# Altium footprint library Library.PcbLib: 124 footprints (part 7 of 8)
Each footprint in its own frame and in the unit in brackets; x right, y up, seen from the top. Pads: shape width x height; smd on the part's side, far side on the other; paste and mask are expansions set on the pad; w line width, h text height; cw(c..) or ccw(c..) is an arc to the next point about the centre after c.
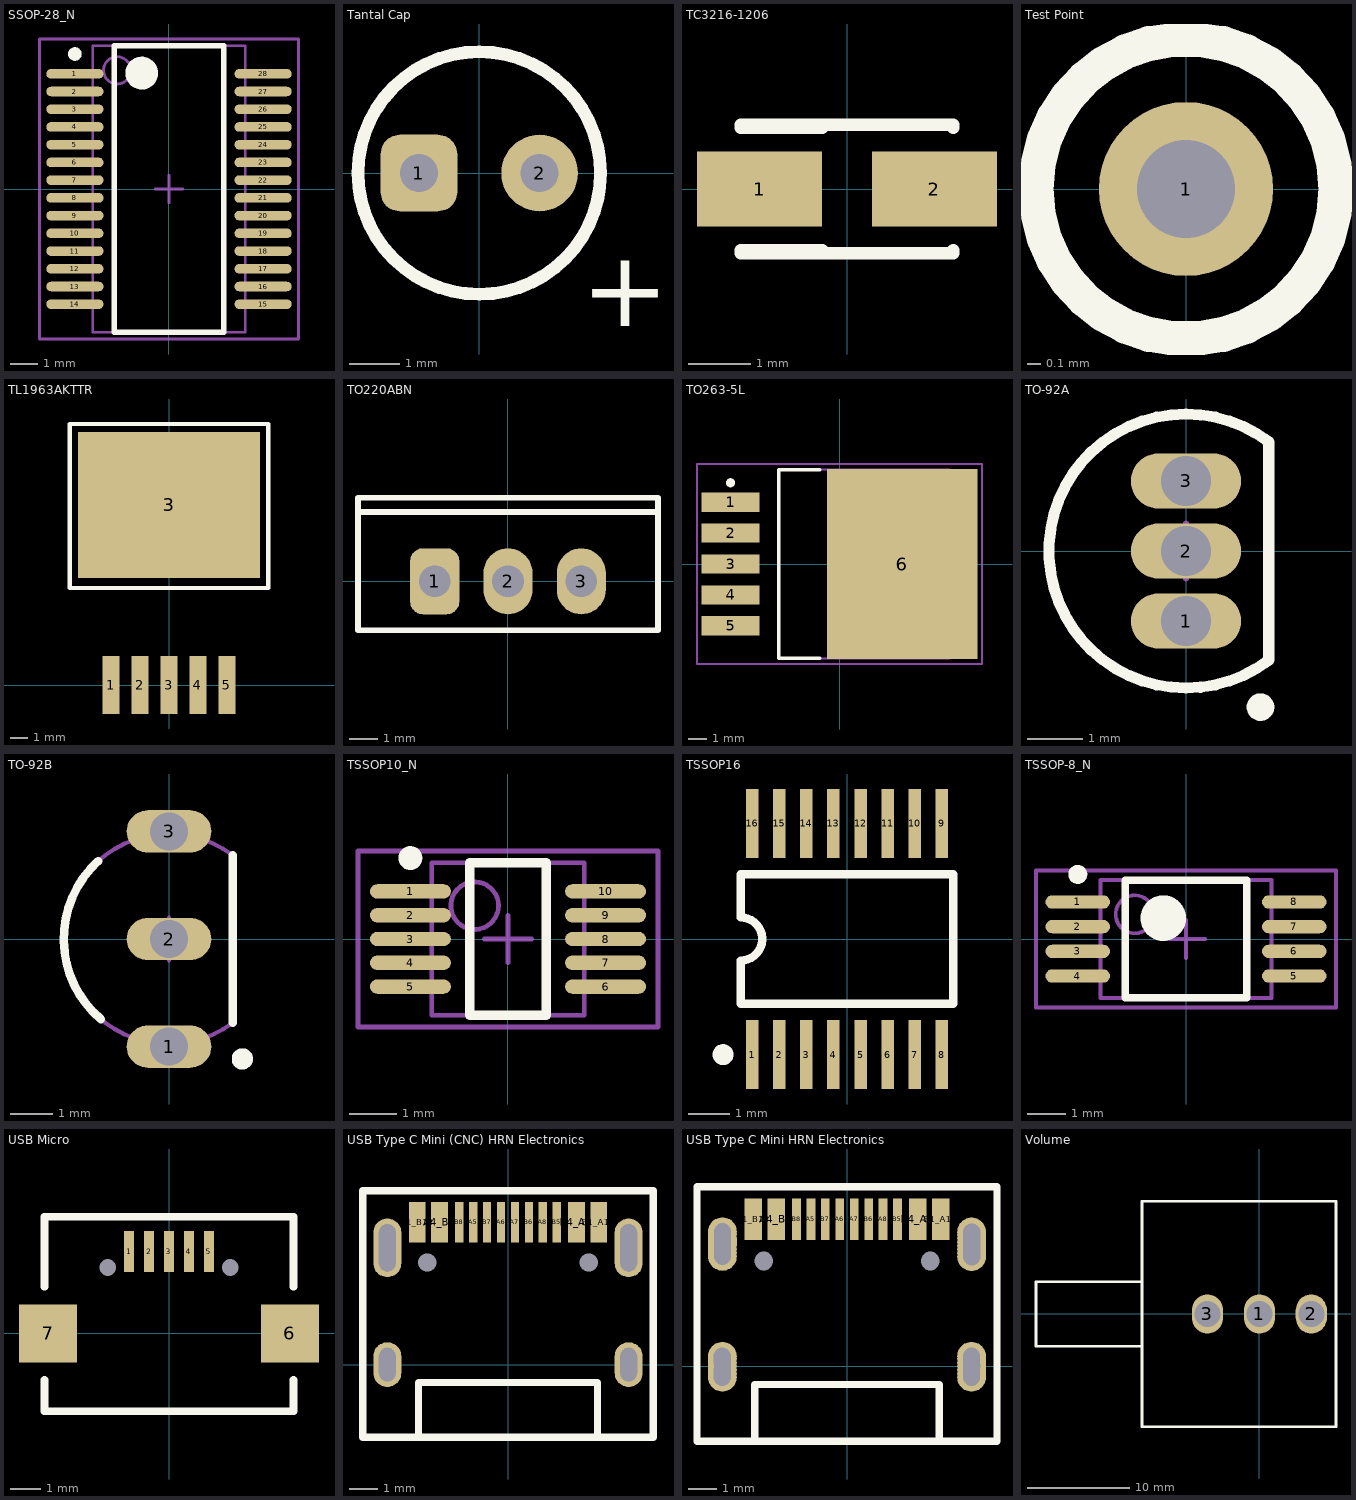
[diagram p6: the footprints below, top view; thin cyan lines are the x and y axes]

## SSOP-28_N [mm] "SOP, 28-Leads, Body 10.2x5.3mm, Pitch 0.65mm, IPC Medium Density"
height 2
pads (28):
  oval 2.1x0.35 smd: 1(-3.45,4.225) 2(-3.45,3.575) 3(-3.45,2.925) 4(-3.45,2.275) 5(-3.45,1.625) 6(-3.45,0.975) 7(-3.45,0.325) 8(-3.45,-0.325) 9(-3.45,-0.975) 10(-3.45,-1.625) 11(-3.45,-2.275) 12(-3.45,-2.925) 13(-3.45,-3.575) 14(-3.45,-4.225) 15(3.45,-4.225) 16(3.45,-3.575) 17(3.45,-2.925) 18(3.45,-2.275) 19(3.45,-1.625) 20(3.45,-0.975) 21(3.45,-0.325) 22(3.45,0.325) 23(3.45,0.975) 24(3.45,1.625) 25(3.45,2.275) 26(3.45,2.925) 27(3.45,3.575) 28(3.45,4.225)
Top Overlay:
  circle w0.25: c-3.45,4.95 r0.125
  circle w0.6: c-1,4.25 r0.3
  lines w0.2: -2,-5.25 -2,5.25 2,5.25 2,-5.25 -2,-5.25
Mechanical 13:
  circle w0.1: c-1.9,4.35 r0.5
  lines w0.1: -2.8,-5.25 -2.8,5.25 2.8,5.25 2.8,-5.25 -2.8,-5.25
Mechanical 15:
  lines w0.1: -0.5,0 0.5,0 ; 0,-0.5 0,0.5 ; -4.75,-5.5 -4.75,5.5 4.75,5.5 4.75,-5.5 -4.75,-5.5
3D body: height 2, standoff 0.05, extent -2.8,-5.25 2.8,5.25

## Tantal Cap [mil] "Tantalum Capacitor"
height 275.59
pads (2):
  rrect50% 60x60 hole 30: 1(-47.24,0)
  round 60 hole 30: 2(47.24,0)
Top Overlay:
  circle w10: c0,0 r95
  text "+" at 80,-120 h60

## TC3216-1206 [mm] "Capacitor, SM Tantalum; Body 3.2 x 1.6 mm (LxW typ)"
height 2.2
pads (2):
  rect 2x1.2 smd: 1(-1.4,0) 2(1.4,0)
Top Overlay:
  lines w0.2: -1.7,-1.027 1.7,-1.027 1.7,-0.977 ; -1.7,-0.977 -0.4,-0.977 ; -1.7,0.977 -0.4,0.977 ; -1.7,1.027 1.7,1.027 1.7,0.977

## Test Point [mil]
pads (1):
  round 50 hole 27.99: 1(0,0)
Top Overlay:
  circle w10: c0,0 r43.01

## TL1963AKTTR [mm]
pads (6):
  rect 1x3.4 smd: 1(-3.4,0) 2(-1.7,0) 3(0,0) 4(1.7,0) 5(3.4,0)
  rect 10.7x8.6 smd: 3(0,10.6)
Top Overlay:
  lines w0.254: -5.842,5.715 5.842,5.715 5.842,15.367 -5.842,15.367 -5.842,5.715

## TO220ABN [mm] "TO, Thru-Hole, Vertical, Heatsink Mounted; 3 In-Line Leads; Pitch 2.54 mm; Pin sequence 1, 3, 2"
height 19.7
pads (3):
  rrect50% 1.7x2.286 hole 1.1: 1(-2.54,0)
  oval 1.7x2.286 hole 1.1: 2(0,0) 3(2.54,0)
Top Overlay:
  lines w0.2: -5.2,2.4 5.2,2.4 ; -5.2,-1.7 5.2,-1.7 5.2,2.9 -5.2,2.9 -5.2,-1.7

## TO263-5L [mm] "XL6009"
height 4.65
pads (6):
  rect 3.2x1.05 smd: 1(-6,3.4) 2(-6,1.7) 3(-6,0) 4(-6,-1.7) 5(-6,-3.4)
  rect 8.3x10.45 smd: 6(3.45,0)
Top Overlay:
  circle w0.25: c-6,4.475 r0.125
  lines w0.2: -1.1,-5.2 -3.35,-5.2 -3.35,5.2 -1.1,5.2
Mechanical 13:
  lines w0.1: -3.35,-5.2 -3.35,5.2 6.05,5.2 6.05,-5.2 -3.35,-5.2
Mechanical 15:
  lines w0.1: -0.5,0 0.5,0 ; 0,-0.5 0,0.5 ; -7.85,-5.5 -7.85,5.5 7.85,5.5 7.85,-5.5 -7.85,-5.5
3D body: height 4.65, standoff 0, extent -3.35,-5.2 6.05,5.2

## TO-92A [mm] "2N3904, TO, Flat Index; 3 In-Line, Axial Leads; Body Dia. 4.5mm; Leads 0.51 x 0.48 mm (max)"
height 6.86
pads (3):
  oval 2x1 hole 0.9: 1(0,-1.27) 2(0,0) 3(0,1.27)
Top Overlay:
  circle w0.25: c1.35,-2.83 r0.125
  lines w0.2: 1.5,-1.98 cw(c0,0) 1.5,1.98 1.5,-1.98
Mechanical 13:
  lines w0.1: 1.5,-1.98 cw(c0,0) 1.5,1.98 1.5,-1.98
Mechanical 15:
  lines w0.1: -0.5,0 0.5,0 ; 0,-0.5 0,0.5
3D body: height 6.86, standoff 2.2, extent -2.485,-2.495 1.501,2.495

## TO-92B [mm]
pads (3):
  oval 2x1 hole 0.9: 1(0,-2.54) 2(0,0) 3(0,2.54)
Top Overlay:
  circle w0.25: c1.731,-2.83 r0.125
  lines w0.2: -1.672,1.837 ccw(c0,0) -1.605,-1.896 ; 1.5,-1.98 1.5,1.98
Mechanical 13:
  lines w0.1: 1.5,-1.98 cw(c0,0) 1.5,1.98 1.5,-1.98
Mechanical 15:
  lines w0.1: -0.5,0 0.5,0 ; 0,-0.5 0,0.5
3D body: height 6.86, standoff 2.2, extent -2.485,-2.495 1.501,2.495

## TSSOP10_N [mm] "TSSOP, 10-Leads, Body 3x3mm, Pitch 0.5mm, IPC Medium Density"
height 1.1
pads (10):
  oval 1.7x0.3 smd: 1(-2.05,1) 2(-2.05,0.5) 3(-2.05,0) 4(-2.05,-0.5) 5(-2.05,-1) 6(2.05,-1) 7(2.05,-0.5) 8(2.05,0) 9(2.05,0.5) 10(2.05,1)
Top Overlay:
  circle w0.25: c-2.05,1.7 r0.125
  lines w0.2: -0.8,-1.6 -0.8,1.6 0.8,1.6 0.8,-1.6 -0.8,-1.6
Mechanical 13:
  circle w0.1: c-0.7,0.7 r0.5
  lines w0.1: -1.6,-1.6 -1.6,1.6 1.6,1.6 1.6,-1.6 -1.6,-1.6
Mechanical 15:
  lines w0.1: -0.5,0 0.5,0 ; 0,-0.5 0,0.5 ; -3.15,-1.85 -3.15,1.85 3.15,1.85 3.15,-1.85 -3.15,-1.85
3D body: height 1.1, standoff 0, extent -1.6,-1.6 1.6,1.6

## TSSOP16 [mm] "Shrink Small Outline; 16 Leads; Body Width 4.4 mm; Pitch 0.65 mm"
height 1.1
pads (16):
  rect 0.3x1.65 smd: 1(-2.275,-2.775) 2(-1.625,-2.775) 3(-0.975,-2.775) 4(-0.325,-2.775) 5(0.325,-2.775) 6(0.975,-2.775) 7(1.625,-2.775) 8(2.275,-2.775) 9(2.275,2.775) 10(1.625,2.775) 11(0.975,2.775) 12(0.325,2.775) 13(-0.325,2.775) 14(-0.975,2.775) 15(-1.625,2.775) 16(-2.275,2.775)
Top Overlay:
  circle w0.25: c-2.975,-2.775 r0.125
  lines w0.2: -2.55,-1.55 2.55,-1.55 2.55,1.55 -2.55,1.55 -2.55,0.517 cw(c-2.55,0) -2.55,-0.517 -2.55,-1.55

## TSSOP-8_N [mm] "TSOP, 8-Leads, Body 3x4.4mm, Pitch 0.65mm, IPC Medium Density"
height 1.2
pads (8):
  oval 1.7x0.35 smd: 1(-2.85,0.975) 2(-2.85,0.325) 3(-2.85,-0.325) 4(-2.85,-0.975) 5(2.85,-0.975) 6(2.85,-0.325) 7(2.85,0.325) 8(2.85,0.975)
Top Overlay:
  circle w0.25: c-2.85,1.7 r0.125
  circle w0.6: c-0.6,0.55 r0.3
  lines w0.2: -1.6,-1.55 -1.6,1.55 1.6,1.55 1.6,-1.55 -1.6,-1.55
Mechanical 13:
  circle w0.1: c-1.35,0.65 r0.5
  lines w0.1: -2.25,-1.55 -2.25,1.55 2.25,1.55 2.25,-1.55 -2.25,-1.55
Mechanical 15:
  lines w0.1: -0.5,0 0.5,0 ; 0,-0.5 0,0.5 ; -3.95,-1.8 -3.95,1.8 3.95,1.8 3.95,-1.8 -3.95,-1.8
3D body: height 1.2, standoff 0, extent -2.25,-1.55 2.25,1.55

## USB Micro [mm]
height 1.85
pads (9):
  rect 0.325x1.35 smd mask+0.04: 1(-1.3,2.675) 2(-0.65,2.675) 3(0,2.675) 4(0.65,2.675) 5(1.3,2.675)
  rect 1.9x1.9 smd: 6(3.95,0) 7(-3.95,0)
  round 0 hole 0.55: 8(2,2.15) 9(-2,2.15)
Top Overlay:
  lines w0.254: -4.064,-1.524 -4.064,-2.54 4.064,-2.54 4.064,-1.524 ; -4.064,1.524 -4.064,3.81 4.064,3.81 4.064,1.524

## USB Type C Mini (CNC) HRN Electronics [mm] "HRN Electronics"
pads (18):
  rect 0.6x1.45 smd: A1_B12(-3.25,5.095) A4_B9(-2.45,5.095) B1_A12(3.25,5.095) B4_A9(2.45,5.095)
  rect 0.3x1.45 smd: A5(-1.25,5.095) A6(-0.25,5.095) A7(0.25,5.095) A8(1.25,5.095) B5(1.75,5.095) B6(0.75,5.095) B7(-0.75,5.095) B8(-1.75,5.095)
  oval 1x1.6 hole 1.2 slot 0.6 at 0 deg: ""(-4.32,0) ""(4.32,0)
  oval 1x2.1 hole 1.7 slot 0.6 at 0 deg: ""(-4.32,4.18) ""(4.32,4.18)
  round 0 hole 0.65: ""(-2.89,3.65) ""(2.89,3.65)
Top Overlay:
  lines w0.254: -3.2,-2.6 -3.2,-0.635 3.2,-0.635 3.2,-2.6 ; -5.2,-2.6 -5.2,6.223 5.2,6.223 5.2,-2.6 -5.2,-2.6

## USB Type C Mini HRN Electronics [mm] "HRN Electronics"
pads (44):
  rect 0.6x1.45 smd: A1_B12(-3.25,5.095) A4_B9(-2.45,5.095) B1_A12(3.25,5.095) B4_A9(2.45,5.095)
  rect 0.3x1.45 smd: A5(-1.25,5.095) A6(-0.25,5.095) A7(0.25,5.095) A8(1.25,5.095) B5(1.75,5.095) B6(0.75,5.095) B7(-0.75,5.095) B8(-1.75,5.095)
  round 1 hole 0.6: ""(-4.32,-0.381) ""(-4.32,-0.254) ""(-4.32,-0.127) ""(-4.32,0.127) ""(-4.32,0.254) ""(-4.32,0.346) ""(-4.318,0) ""(-4.318,3.81) ""(-4.318,3.937) ""(-4.318,4.064) ""(-4.318,4.191) ""(-4.318,4.445) ""(-4.318,4.572) ""(-4.318,4.664) ""(-4.316,4.318) ""(4.318,-0.381) ""(4.318,-0.254) ""(4.318,-0.127) ""(4.318,0.127) ""(4.318,0.254) ""(4.318,0.346) ""(4.32,0) ""(4.32,3.799) ""(4.32,3.926) ""(4.32,4.053) ""(4.32,4.18) ""(4.32,4.434) ""(4.32,4.561) ""(4.32,4.653) ""(4.322,4.307)
  round 0 hole 0.65: ""(-2.89,3.65) ""(2.89,3.65)
Top Overlay:
  lines w0.254: -3.2,-2.6 -3.2,-0.635 3.2,-0.635 3.2,-2.6 ; -5.2,-2.6 -5.2,6.223 5.2,6.223 5.2,-2.6 -5.2,-2.6

## Volume [mil]
pads (3):
  oval 120x150 hole 100: 1(0,0) 2(200,0) 3(-200,0)
Top Overlay:
  lines w10: -452,-124 -860,-124 -860,124 -452,124 ; -452,-434 295,-434 295,434 -452,434 -452,-434